# EAGLE library part 2X3 (library headers.edge(.1in))
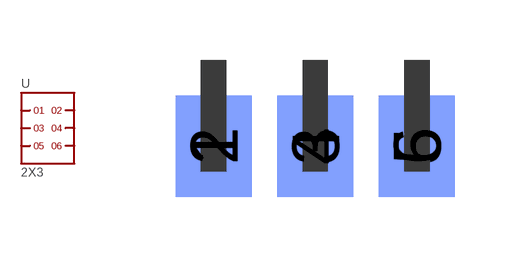
[diagram p5: symbol with the pads of 2X3; footprint 2X3]

Designator prefix -

## 2X3  [2X3]
1  1
2  2
3  3
4  4
5  5
6  6

## Footprint 2X3 (pad centres in mm)
smd 1.905 x 2.54: 1 0,-2.159; 3 2.54,-2.159; 5 5.08,-2.159
smd 1.905 x 2.54 bottom: 2 0,-2.159; 4 2.54,-2.159; 6 5.08,-2.159